# Altium integrated library ST Interface Peripheral Driver.IntLib: 59 symbols (part 1 of 2)
Pins are listed as number, name and electrical type; pins without a type are passive.

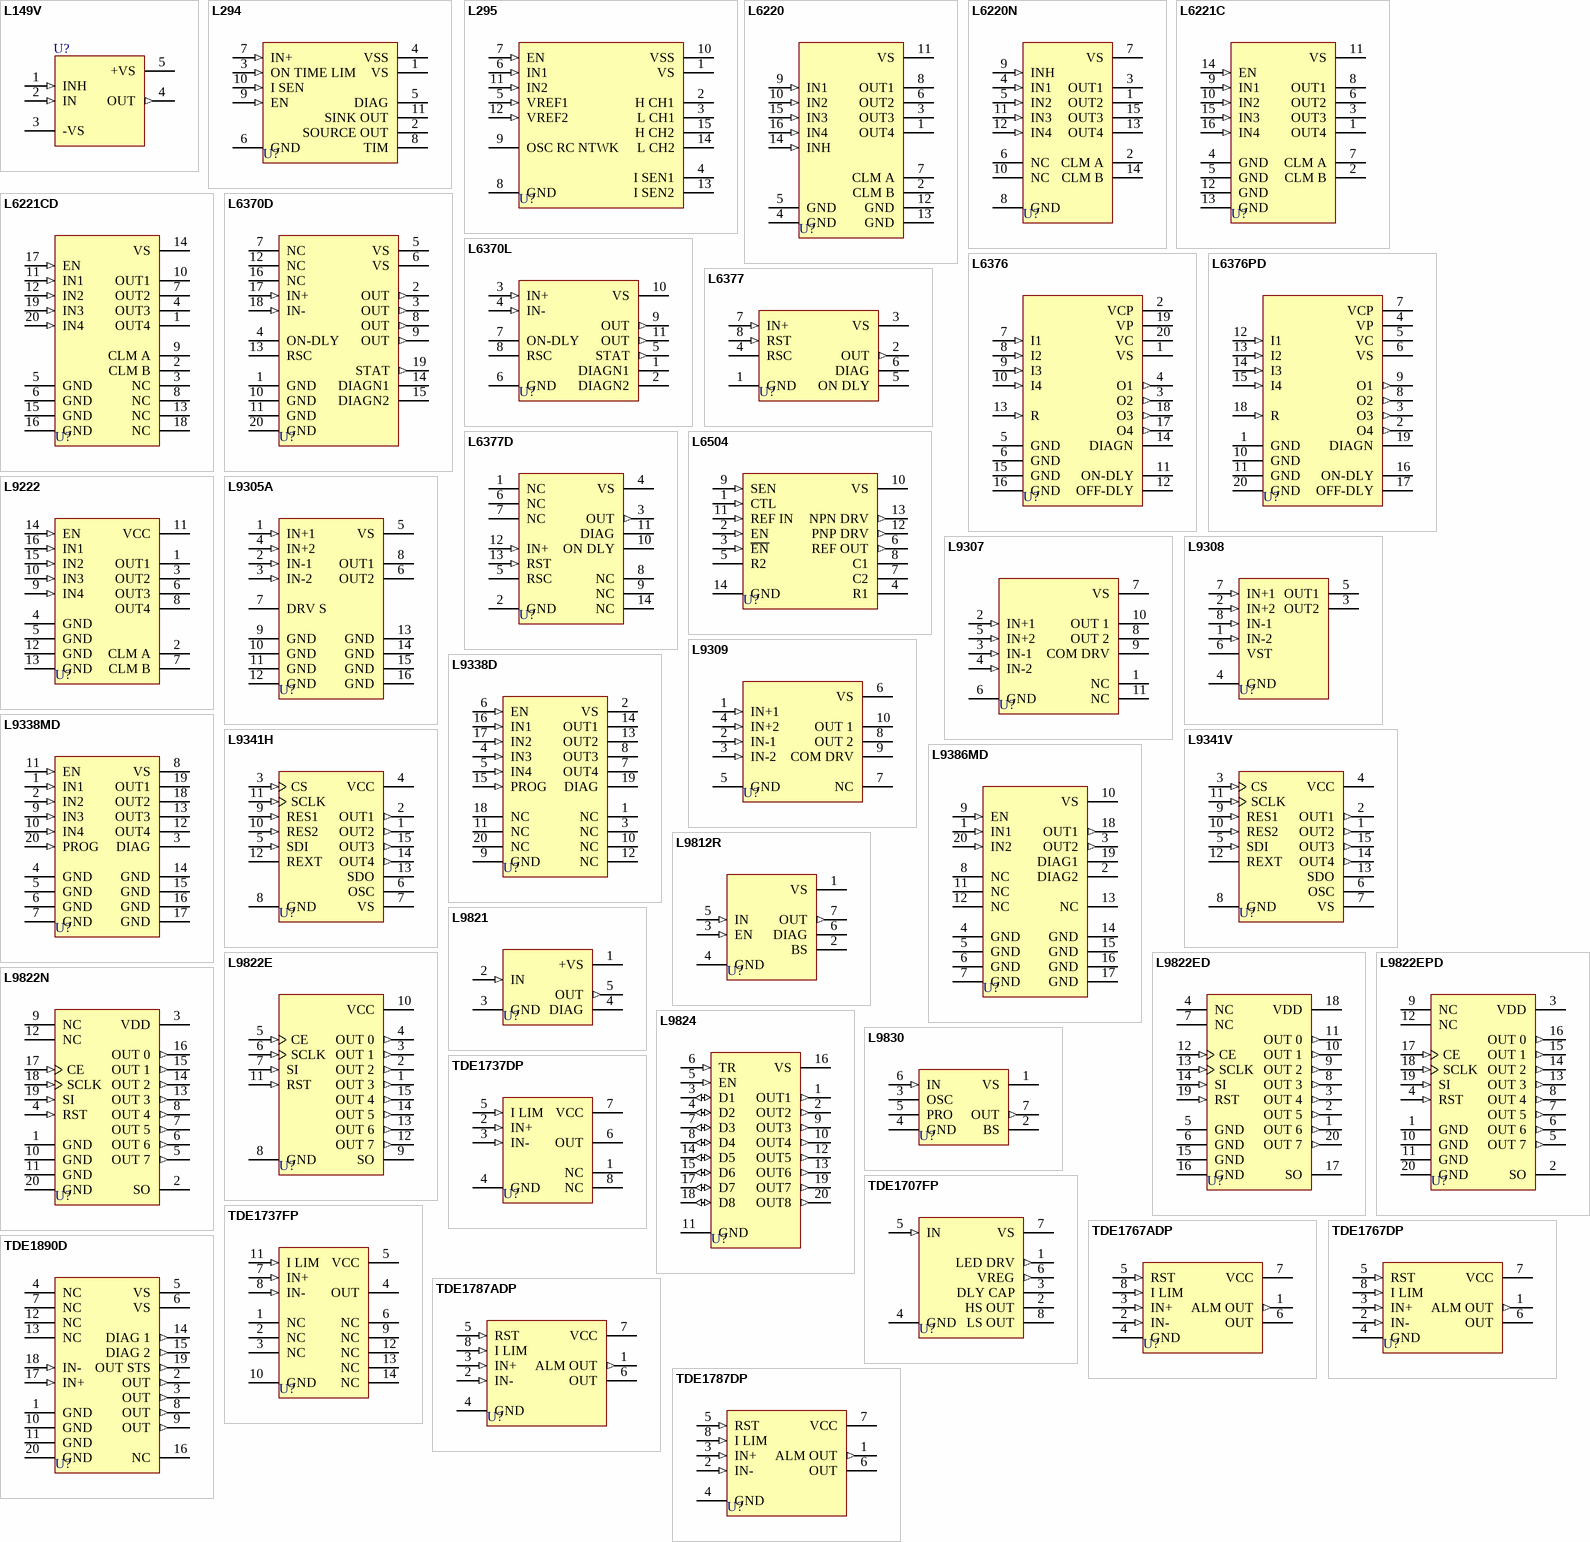
[diagram p0: symbols L149V to TDE1890D]

## L149V
designator U?
4A Linear Driver; Note: TAB connected to pin 3; Published: 8-Jun-2000; LatestRevisionDate: 17-Jul-2002; LatestRevisionNote: Footprint changed; Re-released for DXP Platform.; DatasheetVersion: Mar-1993; PackageVersion: Feb-2004; PackageReference: PentawattV; Publisher: Altium Limited; PackageDescription: TO, Thru-Hole, Vertical, Heatsink Mounted; 5 Bent Staggered Leads; Pitch 1.7 mm; ComponentLink1Description: Manufacturer Link; ComponentLink1URL: http://www.st.com/; ComponentLink2Description: Datasheet; ComponentLink2URL: http://www.st.com/stonline/products/literature/ds/1316/l149.pdf
footprint PentawattV (TO, Thru-Hole, Vertical, Heatsink Mounted; 5 Bent Staggered Leads; Pitch 1.7 mm)
pins: 1 INH (in), 2 IN (in), 3 -VS (power), 4 OUT (out), 5 +VS (power)

## L294
designator U?
Switch-Mode Solenoid Driver; Published: 8-Jun-2000; LatestRevisionDate: 17-Jul-2002; LatestRevisionNote: Re-released for DXP Platform.; DatasheetVersion: Oct-1991; PackageReference: Multiwatt11; Publisher: Altium Limited; PackageDescription: TO, Thru-Hole, Vertical, Heatsink Mounted; 11 Bent Staggered Leads; Pitch 1.7 mm; ComponentLink1Description: Manufacturer Link; ComponentLink1URL: http://www.st.com/; ComponentLink2Description: Datasheet; ComponentLink2URL: http://www.st.com/stonline/products/literature/ds/1331/l294.pdf
footprint Multiwatt11 (TO, Thru-Hole, Vertical, Heatsink Mounted; 11 Bent Staggered Leads; Pitch 1.7 mm)
pins: 1 VS (power), 2 SOURCE OUT (oe), 3 ON TIME LIM (in), 4 VSS (power), 5 DIAG (oc), 6 GND (power), 7 IN+ (in), 8 TIM, 9 EN (in), 10 I SEN (in), 11 SINK OUT (oc)

## L295
designator U?
Dual Switch Mode Solenoid Driver; Published: 8-Jun-2000; LatestRevisionDate: 17-Jul-2002; LatestRevisionNote: Re-released for DXP Platform.; DatasheetVersion: Mar-1993; PackageReference: Multiwatt15V; Publisher: Altium Limited; PackageDescription: TO, Thru-Hole, Vertical, Heatsink Mounted; 15 Bent Staggered Leads; Pitch 1.27 mm; ComponentLink1Description: Manufacturer Link; ComponentLink1URL: http://www.st.com/; ComponentLink2Description: Datasheet; ComponentLink2URL: http://www.st.com/stonline/products/literature/ds/1332/l295.pdf
footprint Multiwatt15V (TO, Thru-Hole, Vertical, Heatsink Mounted; 15 Bent Staggered Leads; Pitch 1.27 mm)
pins: 1 VS (power), 2 H CH1 (oe), 3 L CH1 (oc), 4 I SEN1, 5 VREF1 (in), 6 IN1 (in), 7 EN (in), 8 GND (power), 9 OSC RC NTWK, 10 VSS (power), 11 IN2 (in), 12 VREF2 (in), 13 I SEN2, 14 L CH2 (oc), 15 H CH2 (oe)

## L6220
designator U?
Quad Darlington Switch; Published: 8-Jun-2000; LatestRevisionDate: 06-Jun-2005; LatestRevisionNote: Stylized 3D Model Added.; DatasheetVersion: Apr-1993; PackageVersion: Apr-1996; PackageReference: DIP16; Publisher: Altium Limited; PackageDescription: DIP; 16 Leads; Row Spacing 7.62 mm; Pitch 2.54 mm; ComponentLink1Description: Manufacturer Link; ComponentLink1URL: http://www.st.com/; ComponentLink2Description: Datasheet; ComponentLink2URL: http://www.st.com/stonline/products/literature/ds/1378/l6220.pdf
footprint DIP16 (DIP; 16 Leads; Row Spacing 7.62 mm; Pitch 2.54 mm)
3D model DIP16 (DIP; 16 Leads; Row Spacing 7.62 mm; Pitch 2.54 mm)
pins: 1 OUT4 (oc), 2 CLM B, 3 OUT3 (oc), 4 GND (power), 5 GND (power), 6 OUT2 (oc), 7 CLM A, 8 OUT1 (oc), 9 IN1 (in), 10 IN2 (in), 11 VS (power), 12 GND (power), 13 GND (power), 14 INH (in), 15 IN3 (in), 16 IN4 (in)

## L6220N
designator U?
Quad Darlington Switch; Published: 8-Jun-2000; LatestRevisionDate: 17-Jul-2002; LatestRevisionNote: Re-released for DXP Platform.; DatasheetVersion: Apr-1993; PackageReference: Multiwatt15; Publisher: Altium Limited; PackageDescription: TO, Thru-Hole, Vertical, Heatsink Mounted; 15 Bent Staggered Leads; Pitch 1.27 mm; ComponentLink1Description: Manufacturer Link; ComponentLink1URL: http://www.st.com/
footprint Multiwatt15 (TO, Thru-Hole, Vertical, Heatsink Mounted; 15 Bent Staggered Leads; Pitch 1.27 mm)
pins: 1 OUT2 (oc), 2 CLM A, 3 OUT1 (oc), 4 IN1 (in), 5 IN2 (in), 6 NC, 7 VS (power), 8 GND (power), 9 INH (in), 10 NC, 11 IN3 (in), 12 IN4 (in), 13 OUT4 (oc), 14 CLM B, 15 OUT3 (oc)

## L6221C
designator U?
Quad Darlington Switch; Published: 8-Jun-2000; LatestRevisionDate: 06-Jun-2005; LatestRevisionNote: Stylized 3D Model Added.; DatasheetVersion: May-1997; PackageVersion: Apr-1996; PackageReference: DIP16; Publisher: Altium Limited; PackageDescription: DIP; 16 Leads; Row Spacing 7.62 mm; Pitch 2.54 mm; ComponentLink1Description: Manufacturer Link; ComponentLink1URL: http://www.st.com/
footprint DIP16 (DIP; 16 Leads; Row Spacing 7.62 mm; Pitch 2.54 mm)
3D model DIP16 (DIP; 16 Leads; Row Spacing 7.62 mm; Pitch 2.54 mm)
pins: 1 OUT4 (oc), 2 CLM B, 3 OUT3 (oc), 4 GND (power), 5 GND (power), 6 OUT2 (oc), 7 CLM A, 8 OUT1 (oc), 9 IN1 (in), 10 IN2 (in), 11 VS (power), 12 GND (power), 13 GND (power), 14 EN (in), 15 IN3 (in), 16 IN4 (in)

## L6221CD
designator U?
Quad Darlington Switch; Published: 8-Jun-2000; LatestRevisionDate: 13-Apr-2006; LatestRevisionNote: IPC-7351 Footprint Added.; DatasheetVersion: May-1997; PackageVersion: Jul-2001; PackageReference: SO20; Publisher: Altium Limited; PackageDescription: 20-Pin Plastic Small Outline Integrated Circuit 1.27 mm Pitch; Code_JEDEC: MS-013-AC; Code_IPC: SOIC127P1030-20; ComponentLink1Description: Manufacturer Link; ComponentLink1URL: http://www.st.com/
footprint SO20_N (SOIC, 20-Leads, Body 12.8x7.5mm, Pitch 1.27mm, IPC Medium Density)
footprint SO20_L (SOIC, 20-Leads, Body 12.8x7.5mm, Pitch 1.27mm, IPC High Density)
footprint SO20_M (SOIC, 20-Leads, Body 12.8x7.5mm, Pitch 1.27mm, IPC Low Density)
3D model SO20 (20-Pin Plastic Small Outline Integrated Circuit 1.27 mm Pitch)
pins: 1 OUT4 (oc), 2 CLM B, 3 NC, 4 OUT3 (oc), 5 GND (power), 6 GND (power), 7 OUT2 (oc), 8 NC, 9 CLM A, 10 OUT1 (oc), 11 IN1 (in), 12 IN2 (in), 13 NC, 14 VS (power), 15 GND (power), 16 GND (power), 17 EN (in), 18 NC, 19 IN3 (in), 20 IN4 (in)

## L6370D
designator U?
2.5A High-Side Driver Industrial Intelligent Power Switch; Published: 8-Jun-2000; LatestRevisionDate: 13-Apr-2006; LatestRevisionNote: IPC-7351 Footprint Added.; DatasheetVersion: Mar-1997; PackageVersion: May-1998; PackageReference: PowerSO20; Publisher: Altium Limited; PackageDescription: 20-Pin Small Outline Package 1.27 mm Pitch; Code_JEDEC: MO-166; ComponentLink1Description: Manufacturer Link; ComponentLink1URL: http://www.st.com/; ComponentLink2Description: Datasheet; ComponentLink2URL: http://www.st.com/stonline/products/literature/ds/4282/l6370.pdf
footprint PowerSO20_N (SOP, 20-Leads, Body 15.9x11mm, Pitch 1.27mm, IPC Medium Density)
footprint PowerSO20_L (SOP, 20-Leads, Body 15.9x11mm, Pitch 1.27mm, IPC High Density)
footprint PowerSO20_M (SOP, 20-Leads, Body 15.9x11mm, Pitch 1.27mm, IPC Low Density)
pins: 1 GND (power), 2 OUT (out), 3 OUT (out), 4 ON-DLY, 5 VS (power), 6 VS (power), 7 NC, 8 OUT (out), 9 OUT (out), 10 GND (power), 11 GND (power), 12 NC, 13 RSC, 14 DIAGN1 (oc), 15 DIAGN2 (oc), 16 NC, 17 IN+ (in), 18 IN- (in), 19 STAT (out), 20 GND (power)

## L6370L
designator U?
2.5A High-Side Driver Industrial Intelligent Power Switch; Published: 8-Jun-2000; LatestRevisionDate: 17-Jul-2002; LatestRevisionNote: Re-released for DXP Platform.; DatasheetVersion: Mar-1997; PackageReference: Multiwatt11; Publisher: Altium Limited; PackageDescription: TO, Thru-Hole, Vertical, Heatsink Mounted; 11 Bent Staggered Leads; Pitch 1.7 mm; ComponentLink1Description: Manufacturer Link; ComponentLink1URL: http://www.st.com/; ComponentLink2Description: Datasheet; ComponentLink2URL: http://www.st.com/stonline/products/literature/ds/4282/l6370.pdf
footprint Multiwatt11 (TO, Thru-Hole, Vertical, Heatsink Mounted; 11 Bent Staggered Leads; Pitch 1.7 mm)
pins: 1 DIAGN1 (oc), 2 DIAGN2 (oc), 3 IN+ (in), 4 IN- (in), 5 STAT (out), 6 GND (power), 7 ON-DLY, 8 RSC, 9 OUT (out), 10 VS (power), 11 OUT (out)

## L6376
designator U?
0.5A High-Side Driver Quad Intelligent Power Switch; Published: 8-Jun-2000; LatestRevisionDate: 06-Jun-2005; LatestRevisionNote: Stylized 3D Model Added.; DatasheetVersion: Nov-1996; PackageVersion: Mar-1995; PackageReference: PwrDIP20; Publisher: Altium Limited; PackageDescription: DIP; 20 Leads; Row Spacing 7.62 mm; Pitch 2.54 mm; ComponentLink1Description: Manufacturer Link; ComponentLink1URL: http://www.st.com/; ComponentLink2Description: Datasheet; ComponentLink2URL: http://www.st.com/stonline/products/literature/ds/1768/l6376.pdf
footprint PwrDIP20 (DIP; 20 Leads; Row Spacing 7.62 mm; Pitch 2.54 mm)
3D model PwrDIP20 (DIP; 20 Leads; Row Spacing 7.62 mm; Pitch 2.54 mm)
pins: 1 VS (power), 2 VCP, 3 O2 (out), 4 O1 (out), 5 GND (power), 6 GND (power), 7 I1 (in), 8 I2 (in), 9 I3 (in), 10 I4 (in), 11 ON-DLY, 12 OFF-DLY, 13 R (in), 14 DIAGN (oc), 15 GND (power), 16 GND (power), 17 O4 (out), 18 O3 (out), 19 VP, 20 VC

## L6376PD
designator U?
0.5A High-Side Driver Quad Intelligent Power Switch; Published: 8-Jun-2000; LatestRevisionDate: 13-Apr-2006; LatestRevisionNote: IPC-7351 Footprint Added.; DatasheetVersion: Nov-1996; PackageVersion: May-1998; PackageReference: PowerSO20; Publisher: Altium Limited; PackageDescription: 20-Pin Small Outline Package 1.27 mm Pitch; Code_JEDEC: MO-166; ComponentLink1Description: Manufacturer Link; ComponentLink1URL: http://www.st.com/; ComponentLink2Description: Datasheet; ComponentLink2URL: http://www.st.com/stonline/products/literature/ds/1768/l6376.pdf
footprint PowerSO20_N (SOP, 20-Leads, Body 15.9x11mm, Pitch 1.27mm, IPC Medium Density)
footprint PowerSO20_L (SOP, 20-Leads, Body 15.9x11mm, Pitch 1.27mm, IPC High Density)
footprint PowerSO20_M (SOP, 20-Leads, Body 15.9x11mm, Pitch 1.27mm, IPC Low Density)
pins: 1 GND (power), 2 O4 (out), 3 O3 (out), 4 VP, 5 VC, 6 VS (power), 7 VCP, 8 O2 (out), 9 O1 (out), 10 GND (power), 11 GND (power), 12 I1 (in), 13 I2 (in), 14 I3 (in), 15 I4 (in), 16 ON-DLY, 17 OFF-DLY, 18 R (in), 19 DIAGN (oc), 20 GND (power)

## L6377
designator U?
0.5A High-Side Driver Intelligent Power Switch; Published: 8-Jun-2000; LatestRevisionDate: 06-Jun-2005; LatestRevisionNote: Stylized 3D Model Added.; DatasheetVersion: Feb-1996; PackageReference: DIP8; Publisher: Altium Limited; PackageDescription: DIP; 8 Leads; Row Spacing 7.62 mm; Pitch 2.54 mm; Code_JEDEC: MO-001-AN; ComponentLink1Description: Manufacturer Link; ComponentLink1URL: http://www.st.com/; ComponentLink2Description: Datasheet; ComponentLink2URL: http://www.st.com/stonline/products/literature/ds/1637/l6377.pdf
footprint DIP8 (DIP; 8 Leads; Row Spacing 7.62 mm; Pitch 2.54 mm)
3D model DIP8 (DIP; 8 Leads; Row Spacing 7.62 mm; Pitch 2.54 mm)
pins: 1 GND (power), 2 OUT (out), 3 VS (power), 4 RSC, 5 ON DLY, 6 DIAG (oc), 7 IN+ (in), 8 RST (in)

## L6377D
designator U?
0.5A High-Side Driver Intelligent Power Switch; Published: 8-Jun-2000; LatestRevisionDate: 13-Apr-2006; LatestRevisionNote: IPC-7351 Footprint Added.; DatasheetVersion: Feb-1996; PackageVersion: Sep-1998; PackageReference: SO14; Publisher: Altium Limited; PackageDescription: 14-Pin Small Outline Integrated Circuit 1.27 mm Pitch; Code_IPC: SOIC127P600-14; ComponentLink1Description: Manufacturer Link; ComponentLink1URL: http://www.st.com/; ComponentLink2Description: Datasheet; ComponentLink2URL: http://www.st.com/stonline/products/literature/ds/1637/l6377.pdf
footprint SO14_N (SOIC, 14-Leads, Body 8.7x3.9mm, Pitch 1.27mm, IPC Medium Density)
footprint SO14_L (SOIC, 14-Leads, Body 8.7x3.9mm, Pitch 1.27mm, IPC High Density)
footprint SO14_M (SOIC, 14-Leads, Body 8.7x3.9mm, Pitch 1.27mm, IPC Low Density)
3D model SO14 (14-Pin Small Outline Integrated Circuit 1.27 mm Pitch)
pins: 1 NC, 2 GND (power), 3 OUT (out), 4 VS (power), 5 RSC, 6 NC, 7 NC, 8 NC, 9 NC, 10 ON DLY, 11 DIAG (oc), 12 IN+ (in), 13 RST (in), 14 NC

## L6504
designator U?
Solenoid Controller; Published: 8-Jun-2000; LatestRevisionDate: 06-Jun-2005; LatestRevisionNote: Stylized 3D Model Added.; DatasheetVersion: Oct-1991; PackageVersion: Jan-1997; PackageReference: DIP14; Publisher: Altium Limited; PackageDescription: DIP; 14 Leads; Row Spacing 7.62 mm; Pitch 2.54 mm; ComponentLink1Description: Manufacturer Link; ComponentLink1URL: http://www.st.com/
footprint DIP14 (DIP; 14 Leads; Row Spacing 7.62 mm; Pitch 2.54 mm)
3D model DIP14 (DIP; 14 Leads; Row Spacing 7.62 mm; Pitch 2.54 mm)
pins: 1 CTL (in), 2 EN (in), 3 ~{EN} (in), 4 R1, 5 R2, 6 REF OUT (out), 7 C2, 8 C1, 9 SEN (in), 10 VS (power), 11 REF IN (in), 12 PNP DRV (out), 13 NPN DRV (out), 14 GND (power)

## L9222
designator U?
Quad Inverting Transistor Switch; Published: 8-Jun-2000; LatestRevisionDate: 06-Jun-2005; LatestRevisionNote: Stylized 3D Model Added.; DatasheetVersion: Oct-1990; PackageVersion: Apr-1996; PackageReference: DIP16; Publisher: Altium Limited; PackageDescription: DIP; 16 Leads; Row Spacing 7.62 mm; Pitch 2.54 mm; ComponentLink1Description: Manufacturer Link; ComponentLink1URL: http://www.st.com/; ComponentLink2Description: Datasheet; ComponentLink2URL: http://www.st.com/stonline/products/literature/ds/1397/l9222.pdf
footprint DIP16 (DIP; 16 Leads; Row Spacing 7.62 mm; Pitch 2.54 mm)
3D model DIP16 (DIP; 16 Leads; Row Spacing 7.62 mm; Pitch 2.54 mm)
pins: 1 OUT1 (oc), 2 CLM A, 3 OUT2 (oc), 4 GND (power), 5 GND (power), 6 OUT3 (oc), 7 CLM B, 8 OUT4 (oc), 9 IN4 (in), 10 IN3 (in), 11 VCC (power), 12 GND (power), 13 GND (power), 14 EN (in), 15 IN2 (in), 16 IN1 (in)

## L9305A
designator U?
Dual High Current Relay Driver; Published: 8-Jun-2000; LatestRevisionDate: 06-Jun-2005; LatestRevisionNote: Stylized 3D Model Added.; DatasheetVersion: Jan-1992; PackageVersion: Apr-1996; PackageReference: DIP16; Publisher: Altium Limited; PackageDescription: DIP; 16 Leads; Row Spacing 7.62 mm; Pitch 2.54 mm; ComponentLink1Description: Manufacturer Link; ComponentLink1URL: http://www.st.com/
footprint DIP16 (DIP; 16 Leads; Row Spacing 7.62 mm; Pitch 2.54 mm)
3D model DIP16 (DIP; 16 Leads; Row Spacing 7.62 mm; Pitch 2.54 mm)
pins: 1 IN+1 (in), 2 IN-1 (in), 3 IN-2 (in), 4 IN+2 (in), 5 VS (power), 6 OUT2 (oc), 7 DRV S (power), 8 OUT1 (oc), 9 GND (power), 10 GND (power), 11 GND (power), 12 GND (power), 13 GND (power), 14 GND (power), 15 GND (power), 16 GND (power)

## L9307
designator U?
Dual High Current Current Low Side Driver; Published: 8-Jun-2000; LatestRevisionDate: 17-Jul-2002; LatestRevisionNote: Re-released for DXP Platform.; DatasheetVersion: Oct-1990; PackageReference: Multiwatt11; Publisher: Altium Limited; PackageDescription: TO, Thru-Hole, Vertical, Heatsink Mounted; 11 Bent Staggered Leads; Pitch 1.7 mm; ComponentLink1Description: Manufacturer Link; ComponentLink1URL: http://www.st.com/
footprint Multiwatt11 (TO, Thru-Hole, Vertical, Heatsink Mounted; 11 Bent Staggered Leads; Pitch 1.7 mm)
pins: 1 NC, 2 IN+1 (in), 3 IN-1 (in), 4 IN-2 (in), 5 IN+2 (in), 6 GND (power), 7 VS (power), 8 OUT 2 (oc), 9 COM DRV (oc), 10 OUT 1 (oc), 11 NC

## L9308
designator U?
Dual Low Side Driver; Published: 8-Jun-2000; LatestRevisionDate: 06-Jun-2005; LatestRevisionNote: Stylized 3D Model Added.; DatasheetVersion: Oct-1990; PackageReference: DIP8; Publisher: Altium Limited; PackageDescription: DIP; 8 Leads; Row Spacing 7.62 mm; Pitch 2.54 mm; Code_JEDEC: MO-001-AN; ComponentLink1Description: Manufacturer Link; ComponentLink1URL: http://www.st.com/
footprint DIP8 (DIP; 8 Leads; Row Spacing 7.62 mm; Pitch 2.54 mm)
3D model DIP8 (DIP; 8 Leads; Row Spacing 7.62 mm; Pitch 2.54 mm)
pins: 1 IN-2 (in), 2 IN+2 (in), 3 OUT2 (oc), 4 GND (power), 5 OUT1 (oc), 6 VST (power), 7 IN+1 (in), 8 IN-1 (in)

## L9309
designator U?
Dual High Current Current Low Side Driver; Published: 8-Jun-2000; LatestRevisionDate: 17-Jul-2002; LatestRevisionNote: Re-released for DXP Platform.; DatasheetVersion: Oct-1990; PackageVersion: Oct-1997; PackageReference: SIP10; Publisher: Altium Limited; PackageDescription: TO, Thru-Hole, Vertical, Heatsink Mounted; 10 In-Line Leads; Pitch 2.54 mm; ComponentLink1Description: Manufacturer Link; ComponentLink1URL: http://www.st.com/
footprint SIP10 (TO, Thru-Hole, Vertical, Heatsink Mounted; 10 In-Line Leads; Pitch 2.54 mm)
pins: 1 IN+1 (in), 2 IN-1 (in), 3 IN-2 (in), 4 IN+2 (in), 5 GND (power), 6 VS (power), 7 NC, 8 OUT 2 (oc), 9 COM DRV (oc), 10 OUT 1 (oc)

## L9338D
designator U?
Quad Low Side Driver; Published: 8-Jun-2000; LatestRevisionDate: 13-Apr-2006; LatestRevisionNote: IPC-7351 Footprint Added.; DatasheetVersion: Dec-1998; PackageVersion: Jul-2001; PackageReference: SO20; Publisher: Altium Limited; PackageDescription: 20-Pin Plastic Small Outline Integrated Circuit 1.27 mm Pitch; Code_JEDEC: MS-013-AC; Code_IPC: SOIC127P1030-20; ComponentLink1Description: Manufacturer Link; ComponentLink1URL: http://www.st.com/; ComponentLink2Description: Datasheet; ComponentLink2URL: http://www.st.com/stonline/products/literature/ds/1766/l9338.pdf
footprint SO20_N (SOIC, 20-Leads, Body 12.8x7.5mm, Pitch 1.27mm, IPC Medium Density)
footprint SO20_L (SOIC, 20-Leads, Body 12.8x7.5mm, Pitch 1.27mm, IPC High Density)
footprint SO20_M (SOIC, 20-Leads, Body 12.8x7.5mm, Pitch 1.27mm, IPC Low Density)
3D model SO20 (20-Pin Plastic Small Outline Integrated Circuit 1.27 mm Pitch)
pins: 1 NC, 2 VS (power), 3 NC, 4 IN3 (in), 5 IN4 (in), 6 EN (in), 7 OUT4 (oc), 8 OUT3 (oc), 9 GND (power), 10 NC, 11 NC, 12 NC, 13 OUT2 (oc), 14 OUT1 (oc), 15 PROG (in), 16 IN1 (in), 17 IN2 (in), 18 NC, 19 DIAG (oc), 20 NC

## L9338MD
designator U?
Quad Low Side Driver; Published: 8-Jun-2000; LatestRevisionDate: 13-Apr-2006; LatestRevisionNote: IPC-7351 Footprint Added.; DatasheetVersion: Dec-1998; PackageVersion: Jul-2001; PackageReference: SO20; Publisher: Altium Limited; PackageDescription: 20-Pin Plastic Small Outline Integrated Circuit 1.27 mm Pitch; Code_JEDEC: MS-013-AC; Code_IPC: SOIC127P1030-20; ComponentLink1Description: Manufacturer Link; ComponentLink1URL: http://www.st.com/; ComponentLink2Description: Datasheet; ComponentLink2URL: http://www.st.com/stonline/products/literature/ds/1766/l9338.pdf
footprint SO20_N (SOIC, 20-Leads, Body 12.8x7.5mm, Pitch 1.27mm, IPC Medium Density)
footprint SO20_L (SOIC, 20-Leads, Body 12.8x7.5mm, Pitch 1.27mm, IPC High Density)
footprint SO20_M (SOIC, 20-Leads, Body 12.8x7.5mm, Pitch 1.27mm, IPC Low Density)
3D model SO20 (20-Pin Plastic Small Outline Integrated Circuit 1.27 mm Pitch)
pins: 1 IN1 (in), 2 IN2 (in), 3 DIAG (oc), 4 GND (power), 5 GND (power), 6 GND (power), 7 GND (power), 8 VS (power), 9 IN3 (in), 10 IN4 (in), 11 EN (in), 12 OUT4 (oc), 13 OUT3 (oc), 14 GND (power), 15 GND (power), 16 GND (power), 17 GND (power), 18 OUT2 (oc), 19 OUT1 (oc), 20 PROG (in)

## L9341H
designator U?
Quad Low Side Driver; Published: 8-Jun-2000; LatestRevisionDate: 17-Jul-2002; LatestRevisionNote: Re-released for DXP Platform.; DatasheetVersion: Mar-1994; PackageReference: Multiwatt15V; Publisher: Altium Limited; PackageDescription: TO, Thru-Hole, Vertical, Heatsink Mounted; 15 Bent Staggered Leads; Pitch 1.27 mm; ComponentLink1Description: Manufacturer Link; ComponentLink1URL: http://www.st.com/; ComponentLink2Description: Datasheet; ComponentLink2URL: http://www.st.com/stonline/products/literature/ds/1403/l9341.pdf
footprint Multiwatt15V (TO, Thru-Hole, Vertical, Heatsink Mounted; 15 Bent Staggered Leads; Pitch 1.27 mm)
pins: 1 OUT2 (out), 2 OUT1 (out), 3 CS (in), 4 VCC (power), 5 SDI (in), 6 OSC, 7 VS (power), 8 GND (power), 9 RES1 (in), 10 RES2 (in), 11 SCLK (in), 12 REXT, 13 SDO (hiz), 14 OUT4 (out), 15 OUT3 (out)

## L9341V
designator U?
Quad Low Side Driver; Published: 8-Jun-2000; LatestRevisionDate: 17-Jul-2002; LatestRevisionNote: Re-released for DXP Platform.; DatasheetVersion: Mar-1994; PackageReference: Multiwatt15V; Publisher: Altium Limited; PackageDescription: TO, Thru-Hole, Vertical, Heatsink Mounted; 15 Bent Staggered Leads; Pitch 1.27 mm; ComponentLink1Description: Manufacturer Link; ComponentLink1URL: http://www.st.com/; ComponentLink2Description: Datasheet; ComponentLink2URL: http://www.st.com/stonline/products/literature/ds/1403/l9341.pdf
footprint Multiwatt15V (TO, Thru-Hole, Vertical, Heatsink Mounted; 15 Bent Staggered Leads; Pitch 1.27 mm)
pins: 1 OUT2 (out), 2 OUT1 (out), 3 CS (in), 4 VCC (power), 5 SDI (in), 6 OSC, 7 VS (power), 8 GND (power), 9 RES1 (in), 10 RES2 (in), 11 SCLK (in), 12 REXT, 13 SDO (hiz), 14 OUT4 (out), 15 OUT3 (out)

## L9386MD
designator U?
Dual Intelligent Power Low Side Switch; Published: 8-Jun-2000; LatestRevisionDate: 13-Apr-2006; LatestRevisionNote: IPC-7351 Footprint Added.; DatasheetVersion: Jan-1995; PackageVersion: Jul-2001; PackageReference: SO20; Publisher: Altium Limited; PackageDescription: 20-Pin Plastic Small Outline Integrated Circuit 1.27 mm Pitch; Code_JEDEC: MS-013-AC; Code_IPC: SOIC127P1030-20; ComponentLink1Description: Manufacturer Link; ComponentLink1URL: http://www.st.com/; ComponentLink2Description: Datasheet; ComponentLink2URL: http://www.st.com/stonline/products/literature/ds/4547/l9386.pdf
footprint SO20_N (SOIC, 20-Leads, Body 12.8x7.5mm, Pitch 1.27mm, IPC Medium Density)
footprint SO20_L (SOIC, 20-Leads, Body 12.8x7.5mm, Pitch 1.27mm, IPC High Density)
footprint SO20_M (SOIC, 20-Leads, Body 12.8x7.5mm, Pitch 1.27mm, IPC Low Density)
3D model SO20 (20-Pin Plastic Small Outline Integrated Circuit 1.27 mm Pitch)
pins: 1 IN1 (in), 2 DIAG2 (oc), 3 OUT2 (out), 4 GND (power), 5 GND (power), 6 GND (power), 7 GND (power), 8 NC, 9 EN (in), 10 VS (power), 11 NC, 12 NC, 13 NC, 14 GND (power), 15 GND (power), 16 GND (power), 17 GND (power), 18 OUT1 (out), 19 DIAG1 (oc), 20 IN2 (in)

## L9812R
designator U?
High Side Driver Circuit; Published: 8-Jun-2000; LatestRevisionDate: 17-Jul-2002; LatestRevisionNote: Re-released for DXP Platform.; DatasheetVersion: Feb-1992; PackageVersion: May-1998; PackageReference: Heptawattv; Publisher: Altium Limited; PackageDescription: TO, Thru-Hole, Vertical, Heatsink Mounted; 7 Bent Staggered Leads; Pitch 1.27 mm; ComponentLink1Description: Manufacturer Link; ComponentLink1URL: http://www.st.com/
footprint Heptawattv (TO, Thru-Hole, Vertical, Heatsink Mounted; 7 Bent Staggered Leads; Pitch 1.27 mm)
pins: 1 VS (power), 2 BS, 3 EN (in), 4 GND (power), 5 IN (in), 6 DIAG (oc), 7 OUT (out)

## L9821
designator U?
High Side Driver; Published: 8-Jun-2000; LatestRevisionDate: 17-Jul-2002; LatestRevisionNote: Footprint changed; Re-released for DXP Platform.; DatasheetVersion: Sep-1990; PackageVersion: Feb-2004; PackageReference: PentawattV; Publisher: Altium Limited; PackageDescription: TO, Thru-Hole, Vertical, Heatsink Mounted; 5 Bent Staggered Leads; Pitch 1.7 mm; ComponentLink1Description: Manufacturer Link; ComponentLink1URL: http://www.st.com/
footprint PentawattV (TO, Thru-Hole, Vertical, Heatsink Mounted; 5 Bent Staggered Leads; Pitch 1.7 mm)
pins: 1 +VS (power), 2 IN (in), 3 GND (power), 4 DIAG (oc), 5 OUT (out)

## L9822E
designator U?
Octal Serial Solenoid Driver; Published: 8-Jun-2000; LatestRevisionDate: 17-Jul-2002; LatestRevisionNote: Re-released for DXP Platform.; DatasheetVersion: Sep-1994; PackageReference: Multiwatt15V; Publisher: Altium Limited; PackageDescription: TO, Thru-Hole, Vertical, Heatsink Mounted; 15 Bent Staggered Leads; Pitch 1.27 mm; ComponentLink1Description: Manufacturer Link; ComponentLink1URL: http://www.st.com/; ComponentLink2Description: Datasheet; ComponentLink2URL: http://www.st.com/stonline/products/literature/ds/1416/l9822e.pdf
footprint Multiwatt15V (TO, Thru-Hole, Vertical, Heatsink Mounted; 15 Bent Staggered Leads; Pitch 1.27 mm)
pins: 1 OUT 3 (out), 2 OUT 2 (out), 3 OUT 1 (out), 4 OUT 0 (out), 5 CE (in), 6 SCLK (in), 7 SI (in), 8 GND (power), 9 SO (hiz), 10 VCC (power), 11 RST (in), 12 OUT 7 (out), 13 OUT 6 (out), 14 OUT 5 (out), 15 OUT 4 (out)

## L9822ED
designator U?
Octal Serial Solenoid Driver; Published: 8-Jun-2000; LatestRevisionDate: 13-Apr-2006; LatestRevisionNote: IPC-7351 Footprint Added.; DatasheetVersion: Sep-1994; PackageVersion: Jul-2001; PackageReference: SO20; Publisher: Altium Limited; PackageDescription: 20-Pin Plastic Small Outline Integrated Circuit 1.27 mm Pitch; Code_JEDEC: MS-013-AC; Code_IPC: SOIC127P1030-20; ComponentLink1Description: Manufacturer Link; ComponentLink1URL: http://www.st.com/; ComponentLink2Description: Datasheet; ComponentLink2URL: http://www.st.com/stonline/products/literature/ds/1416/l9822e.pdf
footprint SO20_N (SOIC, 20-Leads, Body 12.8x7.5mm, Pitch 1.27mm, IPC Medium Density)
footprint SO20_L (SOIC, 20-Leads, Body 12.8x7.5mm, Pitch 1.27mm, IPC High Density)
footprint SO20_M (SOIC, 20-Leads, Body 12.8x7.5mm, Pitch 1.27mm, IPC Low Density)
3D model SO20 (20-Pin Plastic Small Outline Integrated Circuit 1.27 mm Pitch)
pins: 1 OUT 6 (out), 2 OUT 5 (out), 3 OUT 4 (out), 4 NC, 5 GND (power), 6 GND (power), 7 NC, 8 OUT 3 (out), 9 OUT 2 (out), 10 OUT 1 (out), 11 OUT 0 (out), 12 CE (in), 13 SCLK (in), 14 SI (in), 15 GND (power), 16 GND (power), 17 SO (hiz), 18 VDD (power), 19 RST (in), 20 OUT 7 (out)

## L9822EPD
designator U?
Octal Serial Solenoid Driver; Published: 8-Jun-2000; LatestRevisionDate: 13-Apr-2006; LatestRevisionNote: IPC-7351 Footprint Added.; DatasheetVersion: Sep-1994; PackageVersion: May-1998; PackageReference: PowerSO20; Publisher: Altium Limited; PackageDescription: 20-Pin Small Outline Package 1.27 mm Pitch; Code_JEDEC: MO-166; ComponentLink1Description: Manufacturer Link; ComponentLink1URL: http://www.st.com/
footprint PowerSO20_N (SOP, 20-Leads, Body 15.9x11mm, Pitch 1.27mm, IPC Medium Density)
footprint PowerSO20_L (SOP, 20-Leads, Body 15.9x11mm, Pitch 1.27mm, IPC High Density)
footprint PowerSO20_M (SOP, 20-Leads, Body 15.9x11mm, Pitch 1.27mm, IPC Low Density)
pins: 1 GND (power), 2 SO (hiz), 3 VDD (power), 4 RST (in), 5 OUT 7 (out), 6 OUT 6 (out), 7 OUT 5 (out), 8 OUT 4 (out), 9 NC, 10 GND (power), 11 GND (power), 12 NC, 13 OUT 3 (out), 14 OUT 2 (out), 15 OUT 1 (out), 16 OUT 0 (out), 17 CE (in), 18 SCLK (in), 19 SI (in), 20 GND (power)

## L9822N
designator U?
Octal Serial Solenoid Driver; Published: 8-Jun-2000; LatestRevisionDate: 13-Apr-2006; LatestRevisionNote: IPC-7351 Footprint Added.; DatasheetVersion: Oct-1997; PackageVersion: May-1998; PackageReference: PowerSO20; Publisher: Altium Limited; PackageDescription: 20-Pin Small Outline Package 1.27 mm Pitch; Code_JEDEC: MO-166; ComponentLink1Description: Manufacturer Link; ComponentLink1URL: http://www.st.com/; ComponentLink2Description: Datasheet; ComponentLink2URL: http://www.st.com/stonline/products/literature/ds/1415/l9822n.pdf
footprint PowerSO20_N (SOP, 20-Leads, Body 15.9x11mm, Pitch 1.27mm, IPC Medium Density)
footprint PowerSO20_L (SOP, 20-Leads, Body 15.9x11mm, Pitch 1.27mm, IPC High Density)
footprint PowerSO20_M (SOP, 20-Leads, Body 15.9x11mm, Pitch 1.27mm, IPC Low Density)
pins: 1 GND (power), 2 SO (hiz), 3 VDD (power), 4 RST (in), 5 OUT 7 (out), 6 OUT 6 (out), 7 OUT 5 (out), 8 OUT 4 (out), 9 NC, 10 GND (power), 11 GND (power), 12 NC, 13 OUT 3 (out), 14 OUT 2 (out), 15 OUT 1 (out), 16 OUT 0 (out), 17 CE (in), 18 SCLK (in), 19 SI (in), 20 GND (power)

## L9824
designator U?
Octal Parallel Low Side Driver; Published: 8-Jun-2000; LatestRevisionDate: 06-Jun-2005; LatestRevisionNote: Stylized 3D Model Added.; DatasheetVersion: Feb-1995; PackageVersion: Jun-1998; PackageReference: DIP20; Publisher: Altium Limited; PackageDescription: DIP; 20 Leads; Row Spacing 7.62 mm; Pitch 2.54 mm; Code_JEDEC: MS-015-AE; ComponentLink1Description: Manufacturer Link; ComponentLink1URL: http://www.st.com/
footprint DIP20 (DIP; 20 Leads; Row Spacing 7.62 mm; Pitch 2.54 mm)
3D model DIP20 (DIP; 20 Leads; Row Spacing 7.62 mm; Pitch 2.54 mm)
pins: 1 OUT1 (out), 2 OUT2 (out), 3 D1 (io), 4 D2 (io), 5 EN (in), 6 TR (in), 7 D3 (io), 8 D4 (io), 9 OUT3 (out), 10 OUT4 (out), 11 GND (power), 12 OUT5 (out), 13 OUT6 (out), 14 D5 (io), 15 D6 (io), 16 VS (power), 17 D7 (io), 18 D8 (io), 19 OUT7 (out), 20 OUT8 (out)

## L9830
designator U?
Monolithic Lamp Dimmer; Note: TAB is connected to pin 4; Published: 8-Jun-2000; LatestRevisionDate: 17-Jul-2002; LatestRevisionNote: Re-released for DXP Platform.; DatasheetVersion: Nov-1992; PackageVersion: May-1998; PackageReference: Heptawattv; Publisher: Altium Limited; PackageDescription: TO, Thru-Hole, Vertical, Heatsink Mounted; 7 Bent Staggered Leads; Pitch 1.27 mm; ComponentLink1Description: Manufacturer Link; ComponentLink1URL: http://www.st.com/
footprint Heptawattv (TO, Thru-Hole, Vertical, Heatsink Mounted; 7 Bent Staggered Leads; Pitch 1.27 mm)
pins: 1 VS (power), 2 BS, 3 OSC, 4 GND (power), 5 PRO, 6 IN (in), 7 OUT (out)

## TDE1707FP
designator U?
Intelligent Power Switch; Published: 8-Jun-2000; LatestRevisionDate: 13-Apr-2006; LatestRevisionNote: IPC-7351 Footprint Added.; DatasheetVersion: Jul-1992; PackageVersion: Dec-2002; PackageReference: SO8; Publisher: Altium Limited; PackageDescription: 8-Pin Small Outline Integrated Circuit 1.27 mm Pitch; Code_JEDEC: MS-012-AA; Code_IPC: SOIC127P600-8; ComponentLink1Description: Manufacturer Link; ComponentLink1URL: http://www.st.com/; ComponentLink2Description: Datasheet; ComponentLink2URL: http://www.st.com/stonline/products/literature/ds/6490/tde1707.pdf
footprint SO8_N (SOIC, 8-Leads, Body 4.9x3.9mm, Pitch 1.27mm, IPC Medium Density)
footprint SO8_L (SOIC, 8-Leads, Body 4.9x3.9mm, Pitch 1.27mm, IPC High Density)
footprint SO8_M (SOIC, 8-Leads, Body 4.9x3.9mm, Pitch 1.27mm, IPC Low Density)
3D model SO8 (8-Pin Small Outline Integrated Circuit 1.27 mm Pitch)
pins: 1 LED DRV (out), 2 HS OUT, 3 DLY CAP, 4 GND (power), 5 IN (in), 6 VREG (out), 7 VS (power), 8 LS OUT

## TDE1737DP
designator U?
Interface Circuit- Relay and Lamp-Driver; Published: 8-Jun-2000; LatestRevisionDate: 06-Jun-2005; LatestRevisionNote: Stylized 3D Model Added.; DatasheetVersion: Oct-1991; PackageReference: DIP8; Publisher: Altium Limited; PackageDescription: DIP; 8 Leads; Row Spacing 7.62 mm; Pitch 2.54 mm; Code_JEDEC: MO-001-AN; ComponentLink1Description: Manufacturer Link; ComponentLink1URL: http://www.st.com/; ComponentLink2Description: Datasheet; ComponentLink2URL: http://www.st.com/stonline/products/literature/ds/1515/tde1737.pdf
footprint DIP8 (DIP; 8 Leads; Row Spacing 7.62 mm; Pitch 2.54 mm)
3D model DIP8 (DIP; 8 Leads; Row Spacing 7.62 mm; Pitch 2.54 mm)
pins: 1 NC, 2 IN+ (in), 3 IN- (in), 4 GND (power), 5 I LIM (in), 6 OUT (oc), 7 VCC (power), 8 NC

## TDE1737FP
designator U?
Interface Circuit- Relay and Lamp-Driver; Published: 8-Jun-2000; LatestRevisionDate: 13-Apr-2006; LatestRevisionNote: IPC-7351 Footprint Added.; DatasheetVersion: Oct-1991; PackageVersion: Sep-1998; PackageReference: SO14; Publisher: Altium Limited; PackageDescription: 14-Pin Small Outline Integrated Circuit 1.27 mm Pitch; Code_IPC: SOIC127P600-14; ComponentLink1Description: Manufacturer Link; ComponentLink1URL: http://www.st.com/; ComponentLink2Description: Datasheet; ComponentLink2URL: http://www.st.com/stonline/products/literature/ds/1515/tde1737.pdf
footprint SO14_N (SOIC, 14-Leads, Body 8.7x3.9mm, Pitch 1.27mm, IPC Medium Density)
footprint SO14_L (SOIC, 14-Leads, Body 8.7x3.9mm, Pitch 1.27mm, IPC High Density)
footprint SO14_M (SOIC, 14-Leads, Body 8.7x3.9mm, Pitch 1.27mm, IPC Low Density)
3D model SO14 (14-Pin Small Outline Integrated Circuit 1.27 mm Pitch)
pins: 1 NC, 2 NC, 3 NC, 4 OUT (oc), 5 VCC (power), 6 NC, 7 IN+ (in), 8 IN- (in), 9 NC, 10 GND (power), 11 I LIM (in), 12 NC, 13 NC, 14 NC

## TDE1767ADP
designator U?
Interface Circuit (Relay and Lamp-Driver); Published: 8-Jun-2000; LatestRevisionDate: 06-Jun-2005; LatestRevisionNote: Stylized 3D Model Added.; DatasheetVersion: Mar-1993; PackageReference: DIP8; Publisher: Altium Limited; PackageDescription: DIP; 8 Leads; Row Spacing 7.62 mm; Pitch 2.54 mm; Code_JEDEC: MO-001-AN; ComponentLink1Description: Manufacturer Link; ComponentLink1URL: http://www.st.com/; ComponentLink2Description: Datasheet; ComponentLink2URL: http://www.st.com/stonline/products/literature/ds/1517/tde1767.pdf
footprint DIP8 (DIP; 8 Leads; Row Spacing 7.62 mm; Pitch 2.54 mm)
3D model DIP8 (DIP; 8 Leads; Row Spacing 7.62 mm; Pitch 2.54 mm)
pins: 1 ALM OUT (out), 2 IN- (in), 3 IN+ (in), 4 GND (power), 5 RST (in), 6 OUT (oe), 7 VCC (power), 8 I LIM (in)

## TDE1767DP
designator U?
Interface Circuit (Relay and Lamp-Driver); Published: 8-Jun-2000; LatestRevisionDate: 06-Jun-2005; LatestRevisionNote: Stylized 3D Model Added.; DatasheetVersion: Mar-1993; PackageReference: DIP8; Publisher: Altium Limited; PackageDescription: DIP; 8 Leads; Row Spacing 7.62 mm; Pitch 2.54 mm; Code_JEDEC: MO-001-AN; ComponentLink1Description: Manufacturer Link; ComponentLink1URL: http://www.st.com/; ComponentLink2Description: Datasheet; ComponentLink2URL: http://www.st.com/stonline/products/literature/ds/1517/tde1767.pdf
footprint DIP8 (DIP; 8 Leads; Row Spacing 7.62 mm; Pitch 2.54 mm)
3D model DIP8 (DIP; 8 Leads; Row Spacing 7.62 mm; Pitch 2.54 mm)
pins: 1 ALM OUT (out), 2 IN- (in), 3 IN+ (in), 4 GND (power), 5 RST (in), 6 OUT (oe), 7 VCC (power), 8 I LIM (in)

## TDE1787ADP
designator U?
Interface Circuit (Relay and Lamp-Driver); Published: 8-Jun-2000; LatestRevisionDate: 06-Jun-2005; LatestRevisionNote: Stylized 3D Model Added.; DatasheetVersion: Mar-1993; PackageReference: DIP8; Publisher: Altium Limited; PackageDescription: DIP; 8 Leads; Row Spacing 7.62 mm; Pitch 2.54 mm; Code_JEDEC: MO-001-AN; ComponentLink1Description: Manufacturer Link; ComponentLink1URL: http://www.st.com/; ComponentLink2Description: Datasheet; ComponentLink2URL: http://www.st.com/stonline/products/literature/ds/1517/tde1767.pdf
footprint DIP8 (DIP; 8 Leads; Row Spacing 7.62 mm; Pitch 2.54 mm)
3D model DIP8 (DIP; 8 Leads; Row Spacing 7.62 mm; Pitch 2.54 mm)
pins: 1 ALM OUT (out), 2 IN- (in), 3 IN+ (in), 4 GND (power), 5 RST (in), 6 OUT (oe), 7 VCC (power), 8 I LIM (in)

## TDE1787DP
designator U?
Interface Circuit (Relay and Lamp-Driver); Published: 8-Jun-2000; LatestRevisionDate: 06-Jun-2005; LatestRevisionNote: Stylized 3D Model Added.; DatasheetVersion: Mar-1993; PackageReference: DIP8; Publisher: Altium Limited; PackageDescription: DIP; 8 Leads; Row Spacing 7.62 mm; Pitch 2.54 mm; Code_JEDEC: MO-001-AN; ComponentLink1Description: Manufacturer Link; ComponentLink1URL: http://www.st.com/; ComponentLink2Description: Datasheet; ComponentLink2URL: http://www.st.com/stonline/products/literature/ds/1517/tde1767.pdf
footprint DIP8 (DIP; 8 Leads; Row Spacing 7.62 mm; Pitch 2.54 mm)
3D model DIP8 (DIP; 8 Leads; Row Spacing 7.62 mm; Pitch 2.54 mm)
pins: 1 ALM OUT (out), 2 IN- (in), 3 IN+ (in), 4 GND (power), 5 RST (in), 6 OUT (oe), 7 VCC (power), 8 I LIM (in)

## TDE1890D
designator U?
2A High-Side Driver Industrial Intelligent Power Switch; Published: 8-Jun-2000; LatestRevisionDate: 13-Apr-2006; LatestRevisionNote: IPC-7351 Footprint Added.; DatasheetVersion: Jul-1998; PackageVersion: May-1998; PackageReference: PowerSO20; Publisher: Altium Limited; PackageDescription: 20-Pin Small Outline Package 1.27 mm Pitch; Code_JEDEC: MO-166; ComponentLink1Description: Manufacturer Link; ComponentLink1URL: http://www.st.com/
footprint PowerSO20_N (SOP, 20-Leads, Body 15.9x11mm, Pitch 1.27mm, IPC Medium Density)
footprint PowerSO20_L (SOP, 20-Leads, Body 15.9x11mm, Pitch 1.27mm, IPC High Density)
footprint PowerSO20_M (SOP, 20-Leads, Body 15.9x11mm, Pitch 1.27mm, IPC Low Density)
pins: 1 GND (power), 2 OUT (out), 3 OUT (out), 4 NC, 5 VS (power), 6 VS (power), 7 NC, 8 OUT (out), 9 OUT (out), 10 GND (power), 11 GND (power), 12 NC, 13 NC, 14 DIAG 1 (out), 15 DIAG 2 (out), 16 NC, 17 IN+ (in), 18 IN- (in), 19 OUT STS (out), 20 GND (power)

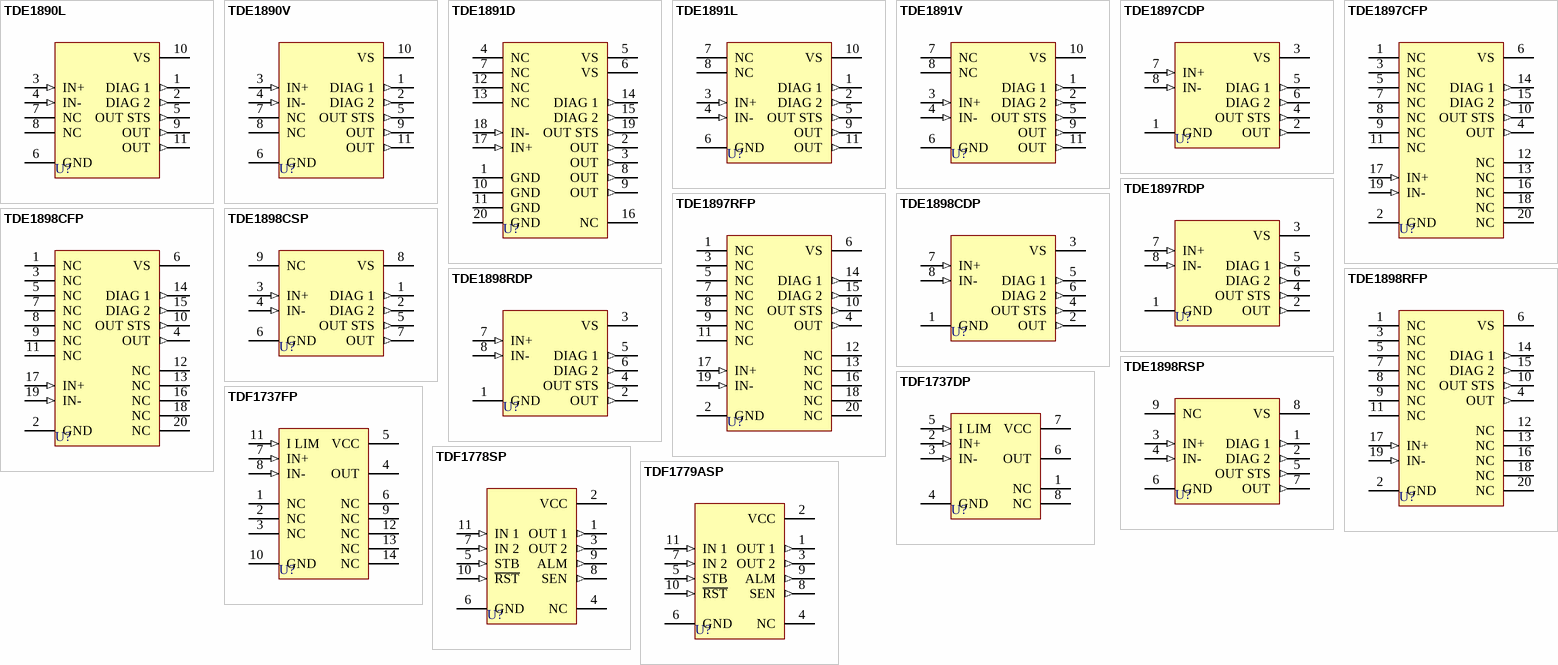
[diagram p1: symbols TDE1890L to TDF1779ASP]

## TDE1890L
designator U?
2A High-Side Driver Industrial Intelligent Power Switch; Published: 8-Jun-2000; LatestRevisionDate: 17-Jul-2002; LatestRevisionNote: Re-released for DXP Platform.; DatasheetVersion: Jul-1998; PackageVersion: Oct-1997; PackageReference: Multiwatt11IL; Publisher: Altium Limited; PackageDescription: TO, Thru-Hole, Vertical, Heatsink Mounted; 11 In-Line Leads; Pitch 1.70 mm; ComponentLink1Description: Manufacturer Link; ComponentLink1URL: http://www.st.com/
footprint MULTIWATT11IL (TO, Thru-Hole, Vertical, Heatsink Mounted; 11 In-Line Leads; Pitch 1.70 mm)
pins: 1 DIAG 1 (out), 2 DIAG 2 (out), 3 IN+ (in), 4 IN- (in), 5 OUT STS (out), 6 GND (power), 7 NC, 8 NC, 9 OUT (out), 10 VS (power), 11 OUT (out)

## TDE1890V
designator U?
2A High-Side Driver Industrial Intelligent Power Switch; Published: 8-Jun-2000; LatestRevisionDate: 17-Jul-2002; LatestRevisionNote: Re-released for DXP Platform.; DatasheetVersion: Jul-1998; PackageVersion: Oct-1997; PackageReference: Multiwatt11V; Publisher: Altium Limited; PackageDescription: TO, Thru-Hole, Vertical, Heatsink Mounted; 11 Bent Staggered Leads; Pitch 1.7 mm; ComponentLink1Description: Manufacturer Link; ComponentLink1URL: http://www.st.com/
footprint Multiwatt11V (TO, Thru-Hole, Vertical, Heatsink Mounted; 11 Bent Staggered Leads; Pitch 1.7 mm)
pins: 1 DIAG 1 (out), 2 DIAG 2 (out), 3 IN+ (in), 4 IN- (in), 5 OUT STS (out), 6 GND (power), 7 NC, 8 NC, 9 OUT (out), 10 VS (power), 11 OUT (out)

## TDE1891D
designator U?
2A High-Side Driver Industrial Intelligent Power Switch; Published: 8-Jun-2000; LatestRevisionDate: 13-Apr-2006; LatestRevisionNote: IPC-7351 Footprint Added.; DatasheetVersion: Oct-1995; PackageVersion: May-1998; PackageReference: PowerSO20; Publisher: Altium Limited; PackageDescription: 20-Pin Small Outline Package 1.27 mm Pitch; Code_JEDEC: MO-166; ComponentLink1Description: Manufacturer Link; ComponentLink1URL: http://www.st.com/
footprint PowerSO20_N (SOP, 20-Leads, Body 15.9x11mm, Pitch 1.27mm, IPC Medium Density)
footprint PowerSO20_L (SOP, 20-Leads, Body 15.9x11mm, Pitch 1.27mm, IPC High Density)
footprint PowerSO20_M (SOP, 20-Leads, Body 15.9x11mm, Pitch 1.27mm, IPC Low Density)
pins: 1 GND (power), 2 OUT (out), 3 OUT (out), 4 NC, 5 VS (power), 6 VS (power), 7 NC, 8 OUT (out), 9 OUT (out), 10 GND (power), 11 GND (power), 12 NC, 13 NC, 14 DIAG 1 (out), 15 DIAG 2 (out), 16 NC, 17 IN+ (in), 18 IN- (in), 19 OUT STS (out), 20 GND (power)

## TDE1891L
designator U?
2A High-Side Driver Industrial Intelligent Power Switch; Published: 8-Jun-2000; LatestRevisionDate: 17-Jul-2002; LatestRevisionNote: Re-released for DXP Platform.; DatasheetVersion: Oct-1995; PackageVersion: Oct-1997; PackageReference: Multiwatt11il; Publisher: Altium Limited; PackageDescription: TO, Thru-Hole, Vertical, Heatsink Mounted; 11 In-Line Leads; Pitch 1.70 mm; ComponentLink1Description: Manufacturer Link; ComponentLink1URL: http://www.st.com/
footprint MULTIWATT11IL (TO, Thru-Hole, Vertical, Heatsink Mounted; 11 In-Line Leads; Pitch 1.70 mm)
pins: 1 DIAG 1 (out), 2 DIAG 2 (out), 3 IN+ (in), 4 IN- (in), 5 OUT STS (out), 6 GND (power), 7 NC, 8 NC, 9 OUT (out), 10 VS (power), 11 OUT (out)

## TDE1891V
designator U?
2A High-Side Driver Industrial Intelligent Power Switch; Published: 8-Jun-2000; LatestRevisionDate: 17-Jul-2002; LatestRevisionNote: Re-released for DXP Platform.; DatasheetVersion: Jul-1998; PackageVersion: Oct-1997; PackageReference: Multiwatt11V; Publisher: Altium Limited; PackageDescription: TO, Thru-Hole, Vertical, Heatsink Mounted; 11 Bent Staggered Leads; Pitch 1.7 mm; ComponentLink1Description: Manufacturer Link; ComponentLink1URL: http://www.st.com/
footprint Multiwatt11V (TO, Thru-Hole, Vertical, Heatsink Mounted; 11 Bent Staggered Leads; Pitch 1.7 mm)
pins: 1 DIAG 1 (out), 2 DIAG 2 (out), 3 IN+ (in), 4 IN- (in), 5 OUT STS (out), 6 GND (power), 7 NC, 8 NC, 9 OUT (out), 10 VS (power), 11 OUT (out)

## TDE1897CDP
designator U?
0.5A High-Side Driver Industrial Intelligent Power Switch; Published: 8-Jun-2000; LatestRevisionDate: 06-Jun-2005; LatestRevisionNote: Stylized 3D Model Added.; DatasheetVersion: Oct-1995; PackageReference: DIP8; Publisher: Altium Limited; PackageDescription: DIP; 8 Leads; Row Spacing 7.62 mm; Pitch 2.54 mm; Code_JEDEC: MO-001-AN; ComponentLink1Description: Manufacturer Link; ComponentLink1URL: http://www.st.com/; ComponentLink2Description: Datasheet; ComponentLink2URL: http://www.st.com/stonline/products/literature/ds/1060/tde1897c.pdf
footprint DIP8 (DIP; 8 Leads; Row Spacing 7.62 mm; Pitch 2.54 mm)
3D model DIP8 (DIP; 8 Leads; Row Spacing 7.62 mm; Pitch 2.54 mm)
pins: 1 GND (power), 2 OUT (out), 3 VS (power), 4 OUT STS (out), 5 DIAG 1 (out), 6 DIAG 2 (out), 7 IN+ (in), 8 IN- (in)

## TDE1897CFP
designator U?
0.5A High-Side Driver Industrial Intelligent Power Switch; Published: 8-Jun-2000; LatestRevisionDate: 13-Apr-2006; LatestRevisionNote: IPC-7351 Footprint Added.; DatasheetVersion: Oct-1995; PackageVersion: Jul-2001; PackageReference: SO20; Publisher: Altium Limited; PackageDescription: 20-Pin Plastic Small Outline Integrated Circuit 1.27 mm Pitch; Code_JEDEC: MS-013-AC; Code_IPC: SOIC127P1030-20; ComponentLink1Description: Manufacturer Link; ComponentLink1URL: http://www.st.com/; ComponentLink2Description: Datasheet; ComponentLink2URL: http://www.st.com/stonline/products/literature/ds/1060/tde1897c.pdf
footprint SO20_N (SOIC, 20-Leads, Body 12.8x7.5mm, Pitch 1.27mm, IPC Medium Density)
footprint SO20_L (SOIC, 20-Leads, Body 12.8x7.5mm, Pitch 1.27mm, IPC High Density)
footprint SO20_M (SOIC, 20-Leads, Body 12.8x7.5mm, Pitch 1.27mm, IPC Low Density)
3D model SO20 (20-Pin Plastic Small Outline Integrated Circuit 1.27 mm Pitch)
pins: 1 NC, 2 GND (power), 3 NC, 4 OUT (out), 5 NC, 6 VS (power), 7 NC, 8 NC, 9 NC, 10 OUT STS (out), 11 NC, 12 NC, 13 NC, 14 DIAG 1 (out), 15 DIAG 2 (out), 16 NC, 17 IN+ (in), 18 NC, 19 IN- (in), 20 NC

## TDE1897RDP
designator U?
0.5A High-Side Driver Industrial Intelligent Power Switch; Published: 8-Jun-2000; LatestRevisionDate: 06-Jun-2005; LatestRevisionNote: Stylized 3D Model Added.; DatasheetVersion: Oct-1995; PackageReference: DIP8; Publisher: Altium Limited; PackageDescription: DIP; 8 Leads; Row Spacing 7.62 mm; Pitch 2.54 mm; Code_JEDEC: MO-001-AN; ComponentLink1Description: Manufacturer Link; ComponentLink1URL: http://www.st.com/; ComponentLink2Description: Datasheet; ComponentLink2URL: http://www.st.com/stonline/products/literature/ds/1061/tde1897r.pdf
footprint DIP8 (DIP; 8 Leads; Row Spacing 7.62 mm; Pitch 2.54 mm)
3D model DIP8 (DIP; 8 Leads; Row Spacing 7.62 mm; Pitch 2.54 mm)
pins: 1 GND (power), 2 OUT (out), 3 VS (power), 4 OUT STS (out), 5 DIAG 1 (out), 6 DIAG 2 (out), 7 IN+ (in), 8 IN- (in)

## TDE1897RFP
designator U?
0.5A High-Side Driver Industrial Intelligent Power Switch; Published: 8-Jun-2000; LatestRevisionDate: 13-Apr-2006; LatestRevisionNote: IPC-7351 Footprint Added.; DatasheetVersion: Oct-1995; PackageVersion: Jul-2001; PackageReference: SO20; Publisher: Altium Limited; PackageDescription: 20-Pin Plastic Small Outline Integrated Circuit 1.27 mm Pitch; Code_JEDEC: MS-013-AC; Code_IPC: SOIC127P1030-20; ComponentLink1Description: Manufacturer Link; ComponentLink1URL: http://www.st.com/; ComponentLink2Description: Datasheet; ComponentLink2URL: http://www.st.com/stonline/products/literature/ds/1061/tde1897r.pdf
footprint SO20_N (SOIC, 20-Leads, Body 12.8x7.5mm, Pitch 1.27mm, IPC Medium Density)
footprint SO20_L (SOIC, 20-Leads, Body 12.8x7.5mm, Pitch 1.27mm, IPC High Density)
footprint SO20_M (SOIC, 20-Leads, Body 12.8x7.5mm, Pitch 1.27mm, IPC Low Density)
3D model SO20 (20-Pin Plastic Small Outline Integrated Circuit 1.27 mm Pitch)
pins: 1 NC, 2 GND (power), 3 NC, 4 OUT (out), 5 NC, 6 VS (power), 7 NC, 8 NC, 9 NC, 10 OUT STS (out), 11 NC, 12 NC, 13 NC, 14 DIAG 1 (out), 15 DIAG 2 (out), 16 NC, 17 IN+ (in), 18 NC, 19 IN- (in), 20 NC

## TDE1898CDP
designator U?
0.5A High-Side Driver Industrial Intelligent Power Switch; Published: 8-Jun-2000; LatestRevisionDate: 06-Jun-2005; LatestRevisionNote: Stylized 3D Model Added.; DatasheetVersion: Oct-1995; PackageReference: DIP8; Publisher: Altium Limited; PackageDescription: DIP; 8 Leads; Row Spacing 7.62 mm; Pitch 2.54 mm; Code_JEDEC: MO-001-AN; ComponentLink1Description: Manufacturer Link; ComponentLink1URL: http://www.st.com/; ComponentLink2Description: Datasheet; ComponentLink2URL: http://www.st.com/stonline/products/literature/ds/1060/tde1897c.pdf
footprint DIP8 (DIP; 8 Leads; Row Spacing 7.62 mm; Pitch 2.54 mm)
3D model DIP8 (DIP; 8 Leads; Row Spacing 7.62 mm; Pitch 2.54 mm)
pins: 1 GND (power), 2 OUT (out), 3 VS (power), 4 OUT STS (out), 5 DIAG 1 (out), 6 DIAG 2 (out), 7 IN+ (in), 8 IN- (in)

## TDE1898CFP
designator U?
0.5A High-Side Driver Industrial Intelligent Power Switch; Published: 8-Jun-2000; LatestRevisionDate: 13-Apr-2006; LatestRevisionNote: IPC-7351 Footprint Added.; DatasheetVersion: Oct-1995; PackageVersion: Jul-2001; PackageReference: SO20; Publisher: Altium Limited; PackageDescription: 20-Pin Plastic Small Outline Integrated Circuit 1.27 mm Pitch; Code_JEDEC: MS-013-AC; Code_IPC: SOIC127P1030-20; ComponentLink1Description: Manufacturer Link; ComponentLink1URL: http://www.st.com/; ComponentLink2Description: Datasheet; ComponentLink2URL: http://www.st.com/stonline/products/literature/ds/1060/tde1897c.pdf
footprint SO20_N (SOIC, 20-Leads, Body 12.8x7.5mm, Pitch 1.27mm, IPC Medium Density)
footprint SO20_L (SOIC, 20-Leads, Body 12.8x7.5mm, Pitch 1.27mm, IPC High Density)
footprint SO20_M (SOIC, 20-Leads, Body 12.8x7.5mm, Pitch 1.27mm, IPC Low Density)
3D model SO20 (20-Pin Plastic Small Outline Integrated Circuit 1.27 mm Pitch)
pins: 1 NC, 2 GND (power), 3 NC, 4 OUT (out), 5 NC, 6 VS (power), 7 NC, 8 NC, 9 NC, 10 OUT STS (out), 11 NC, 12 NC, 13 NC, 14 DIAG 1 (out), 15 DIAG 2 (out), 16 NC, 17 IN+ (in), 18 NC, 19 IN- (in), 20 NC

## TDE1898CSP
designator U?
0.5A High-Side Driver Industrial Intelligent Power Switch; Published: 8-Jun-2000; LatestRevisionDate: 17-Jul-2002; LatestRevisionNote: Re-released for DXP Platform.; DatasheetVersion: Oct-1995; PackageVersion: Oct-1997; PackageReference: SIP9; Publisher: Altium Limited; PackageDescription: TO, Thru-Hole, Vertical, Heatsink Mounted; 9 In-Line Leads; Pitch 2.54 mm; ComponentLink1Description: Manufacturer Link; ComponentLink1URL: http://www.st.com/; ComponentLink2Description: Datasheet; ComponentLink2URL: http://www.st.com/stonline/products/literature/ds/1060/tde1897c.pdf
footprint SIP9 (TO, Thru-Hole, Vertical, Heatsink Mounted; 9 In-Line Leads; Pitch 2.54 mm)
pins: 1 DIAG 1 (out), 2 DIAG 2 (out), 3 IN+ (in), 4 IN- (in), 5 OUT STS (out), 6 GND (power), 7 OUT (out), 8 VS (power), 9 NC

## TDE1898RDP
designator U?
0.5A High-Side Driver Industrial Intelligent Power Switch; Published: 8-Jun-2000; LatestRevisionDate: 06-Jun-2005; LatestRevisionNote: Stylized 3D Model Added.; DatasheetVersion: Oct-1995; PackageReference: DIP8; Publisher: Altium Limited; PackageDescription: DIP; 8 Leads; Row Spacing 7.62 mm; Pitch 2.54 mm; Code_JEDEC: MO-001-AN; ComponentLink1Description: Manufacturer Link; ComponentLink1URL: http://www.st.com/; ComponentLink2Description: Datasheet; ComponentLink2URL: http://www.st.com/stonline/products/literature/ds/1061/tde1897r.pdf
footprint DIP8 (DIP; 8 Leads; Row Spacing 7.62 mm; Pitch 2.54 mm)
3D model DIP8 (DIP; 8 Leads; Row Spacing 7.62 mm; Pitch 2.54 mm)
pins: 1 GND (power), 2 OUT (out), 3 VS (power), 4 OUT STS (out), 5 DIAG 1 (out), 6 DIAG 2 (out), 7 IN+ (in), 8 IN- (in)

## TDE1898RFP
designator U?
0.5A High-Side Driver Industrial Intelligent Power Switch; Published: 8-Jun-2000; LatestRevisionDate: 13-Apr-2006; LatestRevisionNote: IPC-7351 Footprint Added.; DatasheetVersion: Oct-1995; PackageVersion: Jul-2001; PackageReference: SO20; Publisher: Altium Limited; PackageDescription: 20-Pin Plastic Small Outline Integrated Circuit 1.27 mm Pitch; Code_JEDEC: MS-013-AC; Code_IPC: SOIC127P1030-20; ComponentLink1Description: Manufacturer Link; ComponentLink1URL: http://www.st.com/; ComponentLink2Description: Datasheet; ComponentLink2URL: http://www.st.com/stonline/products/literature/ds/1061/tde1897r.pdf
footprint SO20_N (SOIC, 20-Leads, Body 12.8x7.5mm, Pitch 1.27mm, IPC Medium Density)
footprint SO20_L (SOIC, 20-Leads, Body 12.8x7.5mm, Pitch 1.27mm, IPC High Density)
footprint SO20_M (SOIC, 20-Leads, Body 12.8x7.5mm, Pitch 1.27mm, IPC Low Density)
3D model SO20 (20-Pin Plastic Small Outline Integrated Circuit 1.27 mm Pitch)
pins: 1 NC, 2 GND (power), 3 NC, 4 OUT (out), 5 NC, 6 VS (power), 7 NC, 8 NC, 9 NC, 10 OUT STS (out), 11 NC, 12 NC, 13 NC, 14 DIAG 1 (out), 15 DIAG 2 (out), 16 NC, 17 IN+ (in), 18 NC, 19 IN- (in), 20 NC

## TDE1898RSP
designator U?
0.5A High-Side Driver Industrial Intelligent Power Switch; Published: 8-Jun-2000; LatestRevisionDate: 17-Jul-2002; LatestRevisionNote: Re-released for DXP Platform.; DatasheetVersion: Oct-1995; PackageVersion: Oct-1997; PackageReference: SIP9; Publisher: Altium Limited; PackageDescription: TO, Thru-Hole, Vertical, Heatsink Mounted; 9 In-Line Leads; Pitch 2.54 mm; ComponentLink1Description: Manufacturer Link; ComponentLink1URL: http://www.st.com/; ComponentLink2Description: Datasheet; ComponentLink2URL: http://www.st.com/stonline/products/literature/ds/1061/tde1897r.pdf
footprint SIP9 (TO, Thru-Hole, Vertical, Heatsink Mounted; 9 In-Line Leads; Pitch 2.54 mm)
pins: 1 DIAG 1 (out), 2 DIAG 2 (out), 3 IN+ (in), 4 IN- (in), 5 OUT STS (out), 6 GND (power), 7 OUT (out), 8 VS (power), 9 NC